# Altium footprint library LT1761ES5-5TRMPBF.PcbLib: 1 footprints
Each footprint in its own frame and in the unit in brackets; x right, y up, seen from the top. Pads: shape width x height; smd on the part's side, far side on the other; paste and mask are expansions set on the pad; w line width, h text height; cw(c..) or ccw(c..) is an arc to the next point about the centre after c.
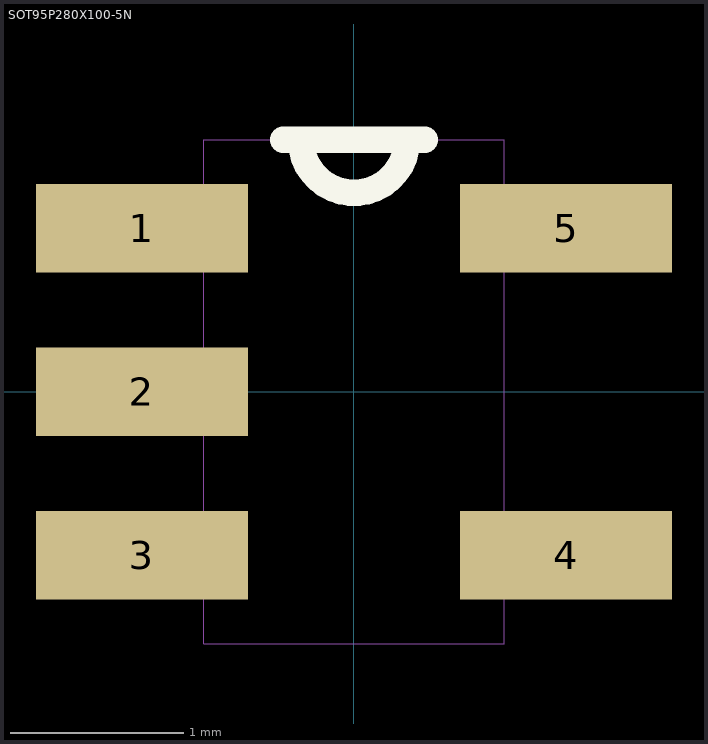
[diagram p0: the footprint, top view; thin cyan lines are the x and y axes]

## SOT95P280X100-5N [mil]
pads (5):
  rect 48x20 smd: 1(-48,37) 2(-48,0) 3(-48,-37) 4(48,-37) 5(48,37)
Top Overlay:
  lines w6: -16,57 -12,57 ; 16,57 12,57 ; -12,57 ccw(c0,57) 12,57 ; -12,57 12,57
Mechanical 13:
  lines w0: -34,-46 -34,-57 34,-57 34,-46 ; -34,-46 -34,-29 ; -34,-46 -55,-46 -55,-29 -34,-29 ; -34,-29 -34,-9 ; -34,-9 -34,9 ; -34,-9 -55,-9 -55,9 -34,9 ; -34,9 -34,29 ; -34,29 -34,46 ; -34,29 -55,29 -55,46 -34,46 ; -34,46 -34,57 -12,57 ; -12,57 ccw(c0,57) 12,57 ; -12,57 12,57 ; 12,57 34,57 34,46 ; 34,-46 34,-29 ; 34,-46 55,-46 55,-29 34,-29 ; 34,-29 34,29 ; 34,29 34,46 ; 34,29 55,29 55,46 34,46
3D body "LT1761ES5-5#TRMPBF.STEP": height 38.75, standoff -0.62, extent -55.24,-57.09 55,57.09